# EAGLE library part 53?-06 (library rgb_cube)
CONNECTOR wire to board 1.25 mm (.049 inch) pitch header
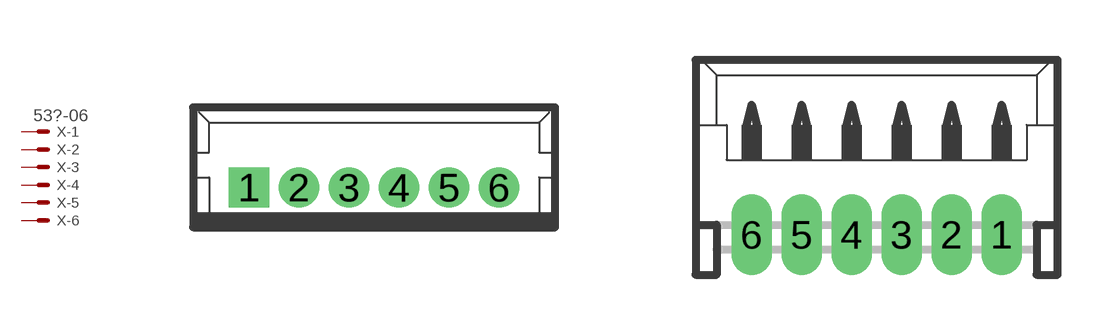
[diagram p22: symbol with the pads of 53047-06; footprints 53047-06, 53048-06]

Designator prefix X; gates -1=MV -2=M -3=M -4=M -5=M -6=M

## 53047-06  [53047-06]
1  -1:S  pas
2  -2:S  pas
3  -3:S  pas
4  -4:S  pas
5  -5:S  pas
6  -6:S  pas

## 53048-06  [53048-06]
Pads as for 53047-06

## 53261-06  [53261-06]
Pads as for 53047-06

## 53398-06  [53398-06]
Pads as for 53047-06

## Footprint 53047-06 (pad centres in mm)
CONNECTOR wire to board 1.25 mm (.049 inch) pitch header straight
drill 0.5 pad 0.9 square: 1 -3.125,0
drill 0.5 pad 0.9 round: 2 -1.875,0; 3 -0.625,0; 4 0.625,0; 5 1.875,0; 6 3.125,0

## Footprint 53048-06 (pad centres in mm)
CONNECTOR wire to board 1.25 mm (.049 inch) pitch header right angle
drill 0.5 pad 0.698 long: 1 3.125,-1.25; 2 1.875,-1.25; 3 0.625,-1.25; 4 -0.625,-1.25; 5 -1.875,-1.25; 6 -3.125,-1.25

## Footprint 53261-06 (pad centres in mm)
CONNECTOR wire to board 1.25 mm (.049 inch) pitch header SMT right angle
smd 0.8 x 2: 1 3.125,-2.5; 2 1.875,-2.5; 3 0.625,-2.5; 4 -0.625,-2.5; 5 -1.875,-2.5; 6 -3.125,-2.5
smd 2.1 x 3: S1 5.625,0.625; S2 -5.625,0.625

## Footprint 53398-06 (pad centres in mm)
CONNECTOR wire to board 1.25 mm (.049 inch) pitch header SMT straight
smd 0.8 x 1.8: 1 3.125,-2.5; 2 1.875,-2.5; 3 0.625,-2.5; 4 -0.625,-2.5; 5 -1.875,-2.5; 6 -3.125,-2.5
smd 2.1 x 3: S1 5.625,0.625; S2 -5.625,0.625